# EAGLE library part STM32F030K6T6TR (library Microcontroller)
IC MCU 32BIT 32KB FLASH 32LQFP Manufacturer's datasheet <https://www.st.com/content/ccc/resource/technical/document/datasheet/a4/5d/0b/0e/87/c4/4d/71/DM00088500.pdf/files/DM00088500.pdf/jcr:content/translations/en.DM00088500.pdf>
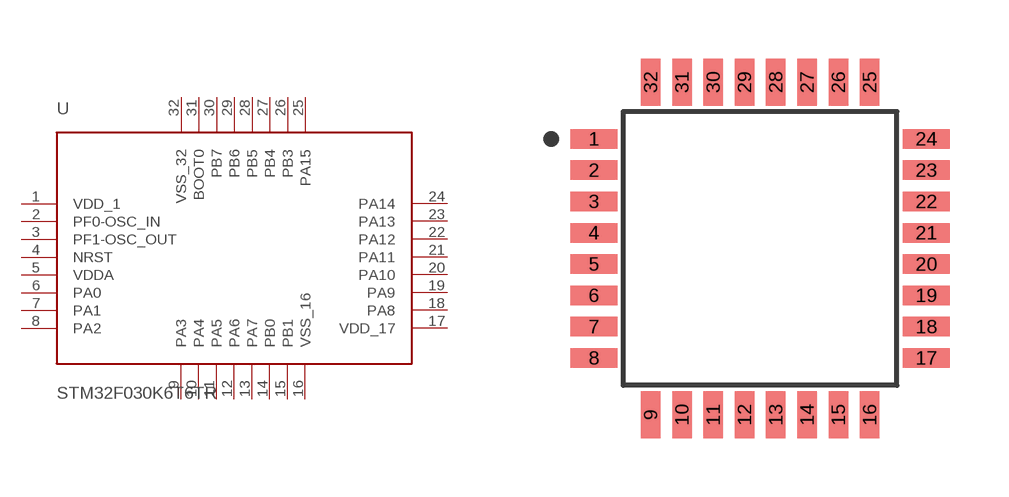
[diagram p12: symbol with the pads of 32-LQFP; footprint 32-LQFP]

Designator prefix U

## STM32F030K6T6TR (CREATED_BY: PCBLayout.com; DIGIKEY_PART_NUMBER: 497-17334-6-ND; MANUFACTURER: STMicroelectronics; MPN: STM32F030K6T6TR; PACKAGE: 32-LQFP)  [32-LQFP]
1  VDD_1  pwr
2  PF0-OSC_IN
3  PF1-OSC_OUT
4  NRST
5  VDDA  pwr
6  PA0
7  PA1
8  PA2
9  PA3
10  PA4
11  PA5
12  PA6
13  PA7
14  PB0
15  PB1
16  VSS_16  pwr
17  VDD_17  pwr
18  PA8
19  PA9
20  PA10
21  PA11
22  PA12
23  PA13
24  PA14
25  PA15
26  PB3
27  PB4
28  PB5
29  PB6
30  PB7
31  BOOT0  in
32  VSS_32  pwr

## Footprint 32-LQFP (pad centres in mm)
smd 1.2 x 0.5: 1 -4.25,2.8; 2 -4.25,2; 3 -4.25,1.2; 4 -4.25,0.4; 5 -4.25,-0.4; 6 -4.25,-1.2; 7 -4.25,-2; 8 -4.25,-2.8; 17 4.25,-2.8; 18 4.25,-2; 19 4.25,-1.2; 20 4.25,-0.4; 21 4.25,0.4; 22 4.25,1.2; 23 4.25,2; 24 4.25,2.8
smd 0.5 x 1.2: 9 -2.8,-4.25; 10 -2,-4.25; 11 -1.2,-4.25; 12 -0.4,-4.25; 13 0.4,-4.25; 14 1.2,-4.25; 15 2,-4.25; 16 2.8,-4.25; 25 2.8,4.25; 26 2,4.25; 27 1.2,4.25; 28 0.4,4.25; 29 -0.4,4.25; 30 -1.2,4.25; 31 -2,4.25; 32 -2.8,4.25